# Altium schematic symbol library Capacitor_Polarized_1.Schlib: 1 symbol
Pins are listed as number, name and electrical type; pins without a type are passive.

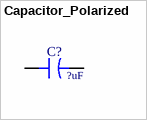
[diagram p0: symbol Capacitor_Polarized]

## Capacitor_Polarized
designator C?  Capacitance: ?uF  (hidden comment: Capacitor_Polarized)
footprint Capacitor Polarized_L
footprint CAPACITOR POLARIZED_M
footprint Capacitor_D10
footprint CAPACITOR_D125
pins: 1, 2